# EAGLE library part 2X5-* (library jt-con-tyco)
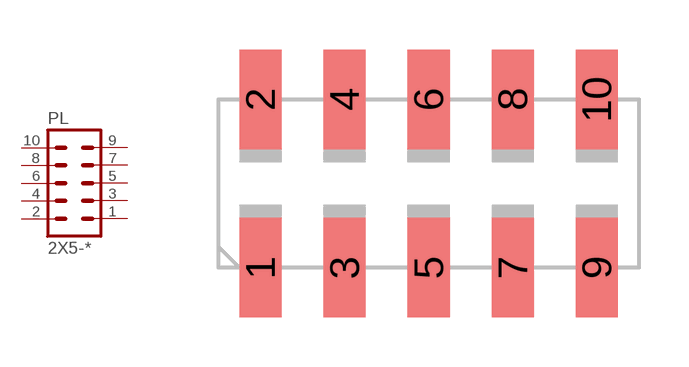
[diagram p6: symbol with the pads of AMP-1241050-5; footprint AMP-1241050-5]

Designator prefix PL

## 2X5-1241050  [AMP-1241050-5]
1  1  pas
2  2  pas
3  3  pas
4  4  pas
5  5  pas
6  6  pas
7  7  pas
8  8  pas
9  9  pas
10  10  pas

## Footprint AMP-1241050-5 (pad centres in mm)
smd 1.27 x 3: 1 -5.08,-2.54; 2 -5.08,2.54; 3 -2.54,-2.54; 4 -2.54,2.54; 5 0,-2.54; 6 0,2.54; 7 2.54,-2.54; 8 2.54,2.54; 9 5.08,-2.54; 10 5.08,2.54